# EAGLE library part QFP48-0.5 (library ic-package)
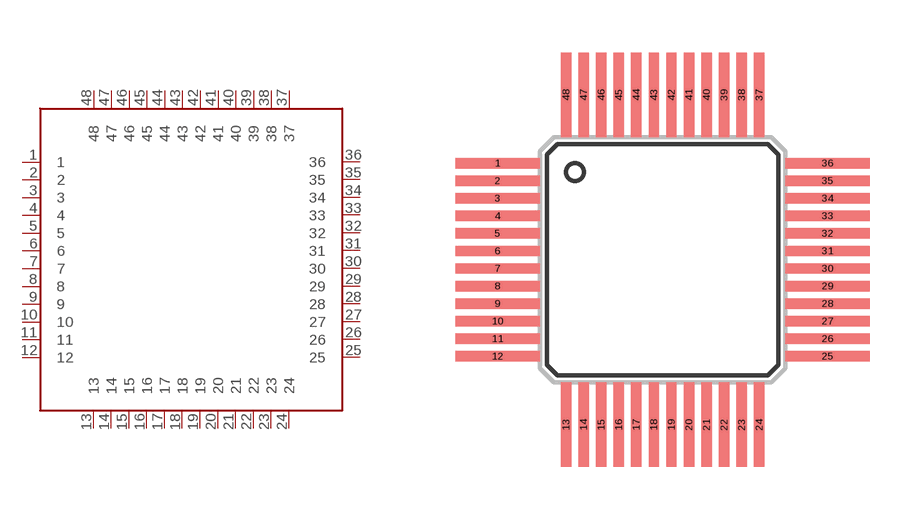
[diagram p0: symbol with the pads of QFP48-0.5; footprint QFP48-0.5]

Designator prefix U

## QFP48-0.5  [QFP48-0.5]
1  1  pas
2  2  pas
3  3  pas
4  4  pas
5  5  pas
6  6  pas
7  7  pas
8  8  pas
9  9  pas
10  10  pas
11  11  pas
12  12  pas
13  13  pas
14  14  pas
15  15  pas
16  16  pas
17  17  pas
18  18  pas
19  19  pas
20  20  pas
21  21  pas
22  22  pas
23  23  pas
24  24  pas
25  25  pas
26  26  pas
27  27  pas
28  28  pas
29  29  pas
30  30  pas
31  31  pas
32  32  pas
33  33  pas
34  34  pas
35  35  pas
36  36  pas
37  37  pas
38  38  pas
39  39  pas
40  40  pas
41  41  pas
42  42  pas
43  43  pas
44  44  pas
45  45  pas
46  46  pas
47  47  pas
48  48  pas

## Footprint QFP48-0.5 (pad centres in mm)
smd 2.4 x 0.297: 1 -4.7,2.75; 2 -4.7,2.25; 3 -4.7,1.75; 4 -4.7,1.25; 5 -4.7,0.75; 6 -4.7,0.25; 7 -4.7,-0.25; 8 -4.7,-0.75; 9 -4.7,-1.25; 10 -4.7,-1.75; 11 -4.7,-2.25; 12 -4.7,-2.75; 25 4.7,-2.75; 26 4.7,-2.25; 27 4.7,-1.75; 28 4.7,-1.25; 29 4.7,-0.75; 30 4.7,-0.25; 31 4.7,0.25; 32 4.7,0.75; 33 4.7,1.25; 34 4.7,1.75; 35 4.7,2.25; 36 4.7,2.75
smd 0.297 x 2.4: 13 -2.75,-4.7; 14 -2.25,-4.7; 15 -1.75,-4.7; 16 -1.25,-4.7; 17 -0.75,-4.7; 18 -0.25,-4.7; 19 0.25,-4.7; 20 0.75,-4.7; 21 1.25,-4.7; 22 1.75,-4.7; 23 2.25,-4.7; 24 2.75,-4.7; 37 2.75,4.7; 38 2.25,4.7; 39 1.75,4.7; 40 1.25,4.7; 41 0.75,4.7; 42 0.25,4.7; 43 -0.25,4.7; 44 -0.75,4.7; 45 -1.25,4.7; 46 -1.75,4.7; 47 -2.25,4.7; 48 -2.75,4.7